# EAGLE library part FT230XS (library FT230XS)
USB to BASIC UART IC Auto generated by make-symbol-device-package-bsdl.ulp Rev. 43 Source: Data sheet <http://www.ftdichip.com/Support/Documents/DataSheets/ICs/DS_FT230X.pdf>
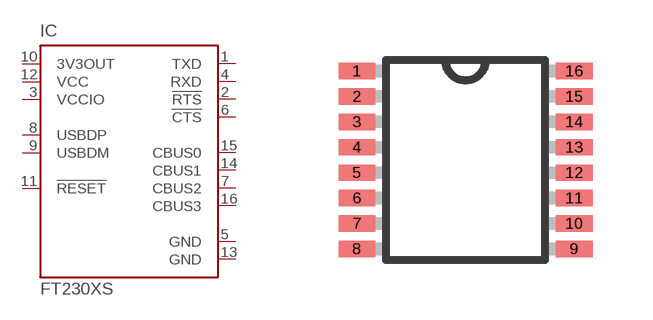
[diagram p0: symbol with the pads of SSOP16; footprint SSOP16]

Designator prefix IC

## FT230XSS (Availability: Unavailable; Description: I/F, USB2.0 FS TO BASIC UART, 16SSOP; USB Type: Transceiver; USB Version: 2.0; Data Rate: 3Mbaud; Supply Voltage Rang...; MF: FTDI; MP: FT230XS; Package: SSOP-16 FTDI; Price: None)  [SSOP16]
1  TXD  out
2  !RTS  out
3  VCCIO  pwr
4  RXD  in
5  GND  pwr
6  !CTS  in
7  CBUS2
8  USBDP  in
9  USBDM  in
10  3V3OUT  out
11  !RESET  in
12  VCC  pwr
13  GND  pwr
14  CBUS1
15  CBUS0
16  CBUS3

## Footprint SSOP16 (pad centres in mm)
SSOP-16 Auto generated by make-symbol-device-package-bsdl.ulp Rev. 43 Source: Data sheet <http://www.ftdichip.com/Support/Documents/DataSheets/ICs/DS_FT230X.pdf>
smd 0.914 x 0.406: 1 -2.718,2.223; 2 -2.718,1.587; 3 -2.718,0.953; 4 -2.718,0.318; 5 -2.718,-0.318; 6 -2.718,-0.953; 7 -2.718,-1.587; 8 -2.718,-2.223; 9 2.718,-2.223; 10 2.718,-1.587; 11 2.718,-0.953; 12 2.718,-0.318; 13 2.718,0.318; 14 2.718,0.953; 15 2.718,1.587; 16 2.718,2.223